# EAGLE library part LEVELCONV (library gate433)
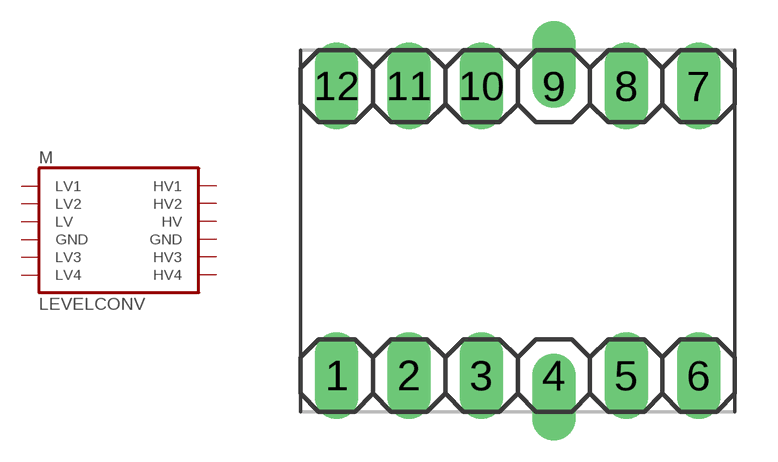
[diagram p5: symbol with the pads of LEVELCONV; footprint LEVELCONV]

Designator prefix M

## LEVELCONV  [LEVELCONV]
1  LV1  pas
2  LV2  pas
3  LV  pas
4  GND  pas
5  LV3  pas
6  LV4  pas
7  HV4
8  HV3
9  GND
10  HV
11  HV2
12  HV1

## Footprint LEVELCONV (pad centres in mm)
drill 1.016 long: 1 -6.35,-5.08; 2 -3.81,-5.08; 3 -1.27,-5.08; 5 3.81,-5.08; 6 6.35,-5.08; 7 6.35,5.08; 8 3.81,5.08; 10 -1.27,5.08; 11 -3.81,5.08; 12 -6.35,5.08
drill 1.016 offset: 4 1.27,-5.08; 9 1.27,5.08